# EAGLE library part ACSA56-51SUR (library Display_LED)
Single Digit Numeric Display - 7SEG, 0.56" Character size, RED, 10SMD Datasheet <https://www.kingbrightusa.com/images/catalog/SPEC/ACSA56-51SURKWA.pdf>
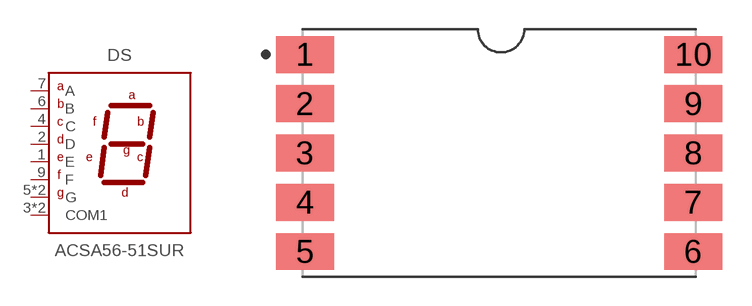
[diagram p4: symbol with the pads of ACSA56-51SURKWA; footprint ACSA56-51SURKWA]

Designator prefix DS

## ACSA56-51SUR (CATEGORY: DISPLAY; COLOR: Hyper Red (AlGaInP); CONFIGURATION: Common Anode; DESCRIPTION: The Hyper Red source color devices are made with Al- GaInP on GaAs substrate Light Emitting Diode; DIGIT: Single Digit; MANUFACTURER: Kingbright; MPN: ACSA56-51SURKWA; OPERATING_TEMP: -40°C to +85 °C; PART_STATUS: Active; ROHS_COMPLIANT: COMPLIANT; SERIES: -; SUB-CATEGORY: LED; THERMALLOSS: 0.075 W; TYPE: 7 Segment; VALUE: ACSA56-51SURKWA)  [ACSA56-51SURKWA]
1  E  pas
2  D  pas
3  COM1  pas
4  C  pas
5  G  pas
6  B  pas
7  A  pas
8  COM1  pas
9  F  pas
10  G  pas

## Footprint ACSA56-51SURKWA (pad centres in mm)
smd 3 x 1.9: 1 -10,5.08; 2 -10,2.54; 3 -10,0; 4 -10,-2.54; 5 -10,-5.08; 6 10,-5.08; 7 10,-2.54; 8 10,0; 9 10,2.54; 10 10,5.08